# Altium footprint library PH2.0.PcbLib: 22 footprints (part 1 of 2)
Each footprint in its own frame and in the unit in brackets; x right, y up, seen from the top. Pads: shape width x height; smd on the part's side, far side on the other; paste and mask are expansions set on the pad; w line width, h text height; cw(c..) or ccw(c..) is an arc to the next point about the centre after c.
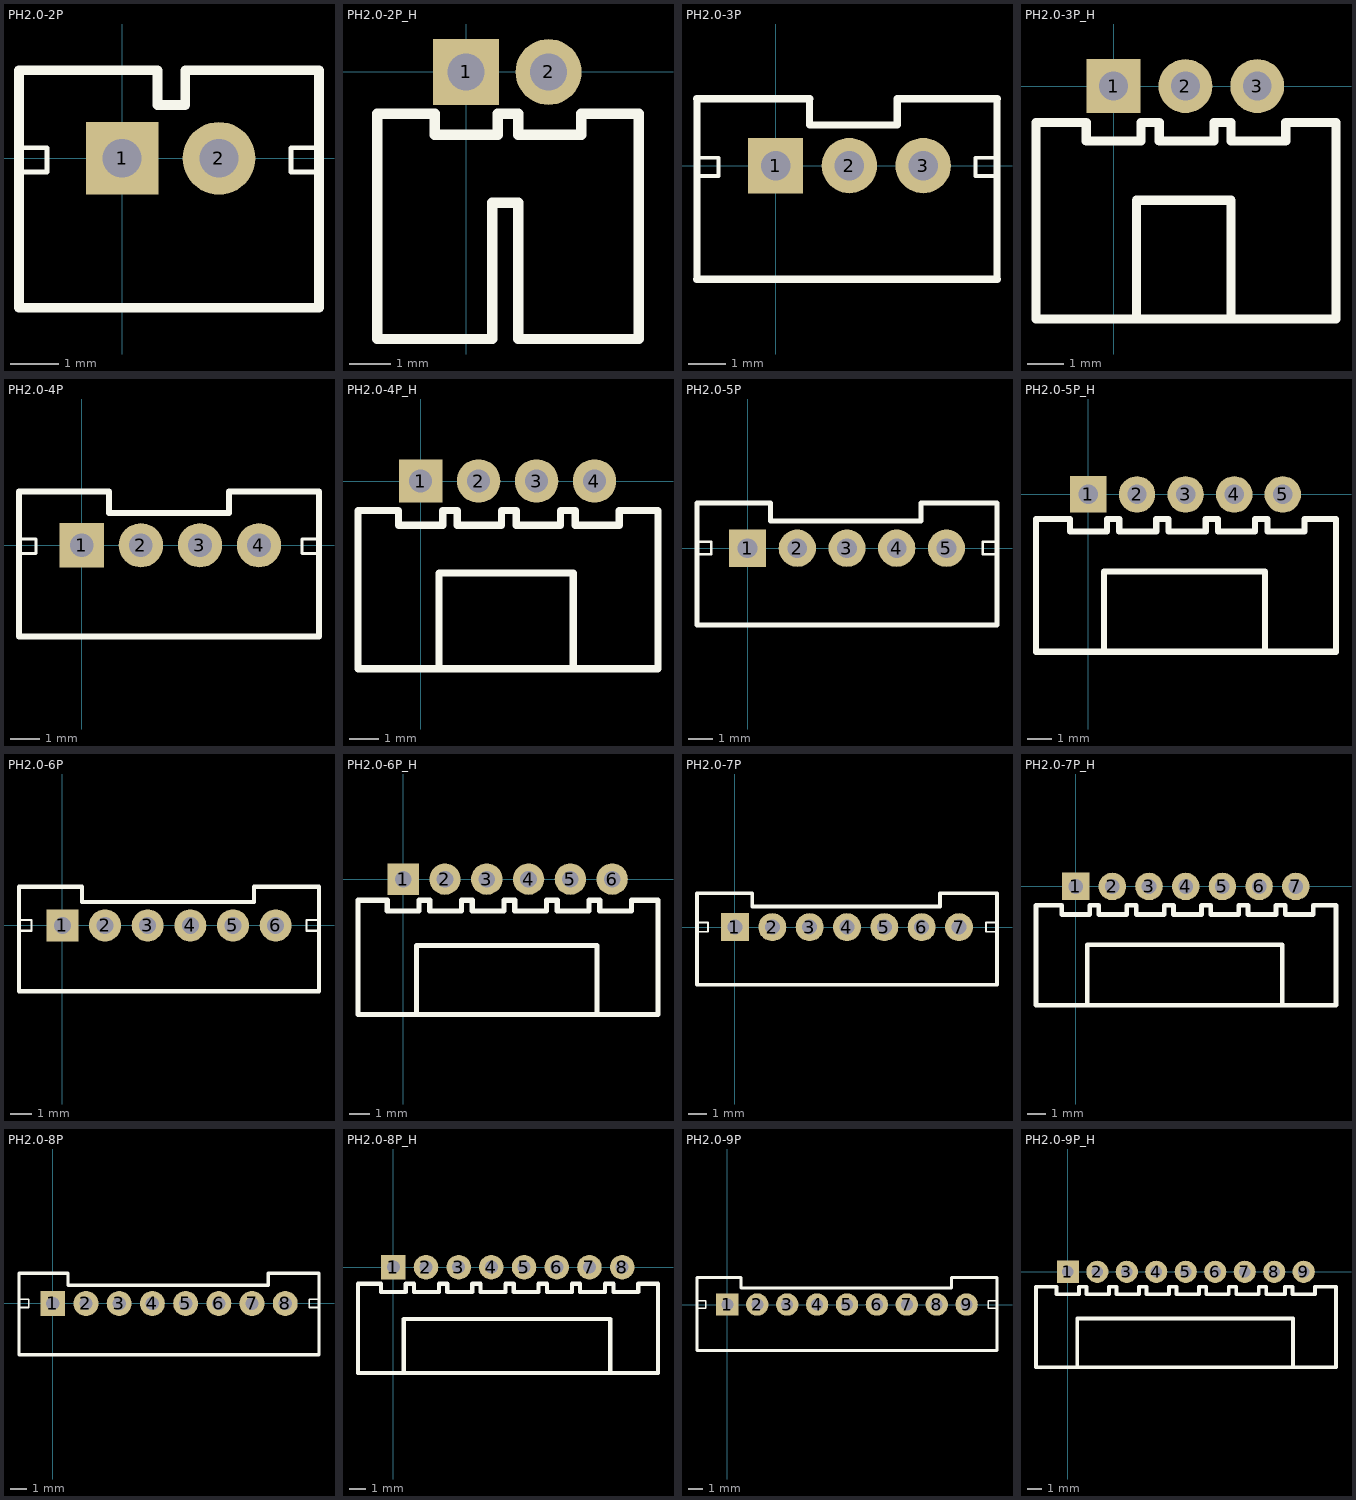
[diagram p0: the footprints below, top view; thin cyan lines are the x and y axes]

## PH2.0-2P [mm] "接插件/1A"
height 10
pads (2):
  rect 1.5x1.5 hole 0.8: 1(0,0)
  round 1.5 hole 0.8: 2(2,0)
Top Overlay:
  lines w0.1: -2.128,-0.284 -1.548,-0.284 -1.548,0.216 -2.128,0.216 ; 4.064,-0.284 3.484,-0.284 3.484,0.216 4.064,0.216
  lines w0.2: -2.128,-3.084 -2.128,1.816 ; 0.73,1.816 0.73,1.1 1.302,1.1 1.302,1.816 ; 4.064,-3.084 4.064,1.816
  lines w0.203: -2.128,-3.084 4,-3.084 ; -2.128,1.816 0.73,1.816 ; 1.302,1.816 4,1.816
3D body: height 6.02, standoff -2.98, extent -1.95,-3 3.95,1.7

## PH2.0-2P_H [mm] "接插件/1A"
height 10
pads (2):
  rect 1.6x1.6 hole 0.9: 1(0,0)
  round 1.6 hole 0.9: 2(2,0)
Top Overlay:
  lines w0.254: -2.159,-6.477 -2.159,-1.016 -0.762,-1.016 -0.762,-1.524 0.762,-1.524 0.762,-1.016 1.27,-1.016 1.27,-1.524 2.794,-1.524 2.794,-1.016 4.191,-1.016 4.191,-6.477 1.27,-6.477 1.27,-3.175 0.635,-3.175 0.635,-6.477 -2.159,-6.477
3D body: height 4.72, standoff -2.68, extent -1.95,-6.3 3.95,0.3

## PH2.0-3P [mm] "接插件/1A"
height 10
pads (3):
  rect 1.5x1.5 hole 0.8: 1(0,0)
  round 1.5 hole 0.8: 2(2,0) 3(4,0)
Top Overlay:
  lines w0.1: -2.128,-0.284 -1.548,-0.284 -1.548,0.216 -2.128,0.216 ; 6,-0.284 5.42,-0.284 5.42,0.216 6,0.216
  lines w0.2: -2.128,-3.084 -2.128,1.816 ; 0.92,1.816 0.92,1.1 3.302,1.1 3.302,1.816 ; 6,-3.084 6,1.816
  lines w0.203: -2.128,-3.084 6,-3.084 ; -2.128,1.816 0.92,1.816 ; 3.302,1.816 6,1.816
3D body: height 6.02, standoff -2.98, extent -1.95,-3 5.95,1.7

## PH2.0-3P_H [mm] "接插件/1A"
height 10
pads (3):
  rect 1.5x1.5 hole 0.8: 1(0,0)
  round 1.5 hole 0.8: 2(2,0) 3(4,0)
Top Overlay:
  lines w0.254: 0.635,-6.477 3.27,-6.477 ; 0.635,-6.477 -2.159,-6.477 -2.159,-1.016 -0.762,-1.016 -0.762,-1.524 0.762,-1.524 0.762,-1.016 1.27,-1.016 1.27,-1.524 2.794,-1.524 2.794,-1.016 3.27,-1.016 3.27,-1.524 4.794,-1.524 4.794,-1.016 6.191,-1.016 6.191,-6.477 3.27,-6.477 ; 0.635,-6.477 0.635,-3.175 3.27,-3.175 3.27,-6.477
3D body: height 4.72, standoff -2.68, extent -1.95,-6.3 5.95,0.3

## PH2.0-4P [mm] "接插件/1A"
height 10
pads (4):
  rect 1.5x1.5 hole 0.8: 1(0,0)
  round 1.5 hole 0.8: 2(2,0) 3(4,0) 4(6,0)
Top Overlay:
  lines w0.1: -2.128,-0.284 -1.548,-0.284 -1.548,0.216 -2.128,0.216 ; 8.032,-0.284 7.452,-0.284 7.452,0.216 8.032,0.216
  lines w0.2: -2.128,1.816 -2.128,-3.084 8.032,-3.084 8.032,1.816 ; 0.92,1.816 0.92,1.1 4.984,1.1 4.984,1.816
  lines w0.203: -2.128,1.816 0.92,1.816 ; 4.984,1.816 8.032,1.816
3D body: height 6.02, standoff -2.98, extent -1.95,-3 7.95,1.7

## PH2.0-4P_H [mm] "接插件/1A"
height 10
pads (4):
  rect 1.5x1.5 hole 0.8: 1(0,0)
  round 1.5 hole 0.8: 2(2,0) 3(4,0) 4(6,0)
Top Overlay:
  lines w0.254: 3.27,-6.477 8.191,-6.477 8.191,-1.016 6.858,-1.016 6.858,-1.524 6.604,-1.524 5.334,-1.524 5.334,-1.016 4.826,-1.016 4.826,-1.524 3.302,-1.524 3.302,-1.016 2.794,-1.016 2.794,-1.524 1.27,-1.524 1.27,-1.016 0.762,-1.016 0.762,-1.524 -0.762,-1.524 -0.762,-1.016 -2.159,-1.016 -2.159,-6.477 0.635,-6.477 ; 0.635,-6.477 5.27,-6.477 5.27,-3.175 0.635,-3.175 0.635,-6.477
3D body: height 4.72, standoff -2.68, extent -1.95,-6.3 7.95,0.3

## PH2.0-5P [mm] "接插件/1A"
height 10
pads (5):
  rect 1.5x1.5 hole 0.8: 1(0,0)
  round 1.5 hole 0.8: 2(2,0) 3(4,0) 4(6,0) 5(8,0)
Top Overlay:
  lines w0.1: -2.032,-0.246 -1.452,-0.246 -1.452,0.254 -2.032,0.254 ; 10.032,-0.246 9.452,-0.246 9.452,0.254 10.032,0.254
  lines w0.2: -2.032,1.816 -2.032,-3.084 10.032,-3.084 10.032,1.816 ; 0.92,1.816 0.92,1.1 6.984,1.1 6.984,1.816
  lines w0.203: -2.032,1.816 0.92,1.816 ; 6.984,1.816 10.032,1.816
3D body: height 6.02, standoff -2.98, extent -1.95,-3 9.95,1.7

## PH2.0-5P_H [mm] "接插件/1A"
height 10
pads (5):
  rect 1.5x1.5 hole 0.8: 1(0,0)
  round 1.5 hole 0.8: 2(2,0) 3(4,0) 4(6,0) 5(8,0)
Top Overlay:
  lines w0.254: 3.27,-6.477 10.191,-6.477 10.191,-1.016 8.89,-1.016 8.89,-1.524 8.636,-1.524 7.366,-1.524 7.366,-1.016 6.858,-1.016 6.858,-1.524 5.334,-1.524 5.334,-1.016 4.826,-1.016 4.826,-1.524 3.302,-1.524 3.302,-1.016 2.794,-1.016 2.794,-1.524 1.27,-1.524 1.27,-1.016 0.762,-1.016 0.762,-1.524 -0.762,-1.524 -0.762,-1.016 -2.159,-1.016 -2.159,-6.477 0.635,-6.477 ; 0.635,-6.477 0.635,-3.175 7.27,-3.175 7.27,-6.477 0.635,-6.477
3D body: height 4.72, standoff -2.68, extent -1.95,-6.3 9.95,0.3

## PH2.0-6P [mm] "接插件/1A"
height 10
pads (6):
  rect 1.5x1.5 hole 0.8: 1(0,0)
  round 1.5 hole 0.8: 2(2,0) 3(4,0) 4(6,0) 5(8,0) 6(10,0)
Top Overlay:
  lines w0.1: -2.032,-0.246 -1.452,-0.246 -1.452,0.254 -2.032,0.254 ; 12.032,-0.246 11.452,-0.246 11.452,0.254 12.032,0.254
  lines w0.2: -2.032,1.816 -2.032,-3.084 12.032,-3.084 12.032,1.816 ; 0.92,1.816 0.92,1.1 8.984,1.1 8.984,1.816
  lines w0.203: -2.032,1.816 0.92,1.816 ; 8.984,1.816 12.032,1.816
3D body: height 6.02, standoff -2.98, extent -1.95,-3 11.95,1.7

## PH2.0-6P_H [mm] "接插件/1A"
height 10
pads (6):
  rect 1.5x1.5 hole 0.8: 1(0,0)
  round 1.5 hole 0.8: 2(2,0) 3(4,0) 4(6,0) 5(8,0) 6(10,0)
Top Overlay:
  lines w0.254: 3.27,-6.477 12.191,-6.477 12.191,-1.016 10.922,-1.016 10.922,-1.524 9.398,-1.524 9.398,-1.016 8.89,-1.016 8.89,-1.524 7.366,-1.524 7.366,-1.016 6.858,-1.016 6.858,-1.524 5.334,-1.524 5.334,-1.016 4.826,-1.016 4.826,-1.524 3.302,-1.524 3.302,-1.016 2.794,-1.016 2.794,-1.524 1.27,-1.524 1.27,-1.016 0.762,-1.016 0.762,-1.524 -0.762,-1.524 -0.762,-1.016 -2.159,-1.016 -2.159,-6.477 0.635,-6.477 ; 0.635,-6.477 9.27,-6.477 9.27,-3.175 0.635,-3.175 0.635,-6.477
3D body: height 4.72, standoff -2.68, extent -1.95,-6.3 11.95,0.3

## PH2.0-7P [mm] "接插件/1A"
height 10
pads (7):
  rect 1.5x1.5 hole 0.8: 1(0,0)
  round 1.5 hole 0.8: 2(2,0) 3(4,0) 4(6,0) 5(8,0) 6(10,0) 7(12,0)
Top Overlay:
  lines w0.1: -2.032,-0.246 -1.452,-0.246 -1.452,0.254 -2.032,0.254 ; 14.032,-0.246 13.452,-0.246 13.452,0.254 14.032,0.254
  lines w0.2: -2.032,1.816 -2.032,-3.084 14.032,-3.084 14.032,1.816 ; 0.92,1.816 0.92,1.1 10.984,1.1 10.984,1.816
  lines w0.203: -2.032,1.816 0.92,1.816 ; 10.984,1.816 14.032,1.816
3D body: height 6.02, standoff -2.98, extent -1.95,-3 13.95,1.7

## PH2.0-7P_H [mm] "接插件/1A"
height 10
pads (7):
  rect 1.5x1.5 hole 0.8: 1(0,0)
  round 1.5 hole 0.8: 2(2,0) 3(4,0) 4(6,0) 5(8,0) 6(10,0) 7(12,0)
Top Overlay:
  lines w0.254: 3.27,-6.477 14.191,-6.477 14.191,-1.016 12.954,-1.016 12.954,-1.524 11.43,-1.524 11.43,-1.016 10.922,-1.016 10.922,-1.524 9.398,-1.524 9.398,-1.016 8.89,-1.016 8.89,-1.524 7.366,-1.524 7.366,-1.016 6.858,-1.016 6.858,-1.524 6.604,-1.524 5.334,-1.524 5.334,-1.016 4.826,-1.016 4.826,-1.524 3.302,-1.524 3.302,-1.016 2.794,-1.016 2.794,-1.524 1.27,-1.524 1.27,-1.016 0.762,-1.016 0.762,-1.524 -0.762,-1.524 -0.762,-1.016 -2.159,-1.016 -2.159,-6.477 0.635,-6.477 ; 0.635,-6.477 0.635,-3.175 11.27,-3.175 11.27,-6.477 0.635,-6.477
3D body: height 4.72, standoff -2.68, extent -1.95,-6.3 13.95,0.3

## PH2.0-8P [mm] "接插件/1A"
height 10
pads (8):
  rect 1.5x1.5 hole 0.8: 1(0,0)
  round 1.5 hole 0.8: 2(2,0) 3(4,0) 4(6,0) 5(8,0) 6(10,0) 7(12,0) 8(14,0)
Top Overlay:
  lines w0.1: -2.032,-0.246 -1.452,-0.246 -1.452,0.254 -2.032,0.254 ; 16.032,-0.246 15.452,-0.246 15.452,0.254 16.032,0.254
  lines w0.2: -2.032,1.816 -2.032,-3.084 16.032,-3.084 16.032,1.816 ; 0.92,1.816 0.92,1.1 12.984,1.1 12.984,1.816
  lines w0.203: -2.032,1.816 0.92,1.816 ; 12.984,1.816 16.032,1.816
3D body: height 6.02, standoff -2.98, extent -1.95,-3 15.95,1.7

## PH2.0-8P_H [mm] "接插件/1A"
height 10
pads (8):
  rect 1.5x1.5 hole 0.8: 1(0,0)
  round 1.5 hole 0.8: 2(2,0) 3(4,0) 4(6,0) 5(8,0) 6(10,0) 7(12,0) 8(14,0)
Top Overlay:
  lines w0.254: 3.27,-6.477 16.191,-6.477 16.191,-1.016 14.986,-1.016 14.986,-1.524 13.462,-1.524 13.462,-1.016 12.954,-1.016 12.954,-1.524 11.43,-1.524 11.43,-1.016 10.922,-1.016 10.922,-1.524 9.398,-1.524 9.398,-1.016 8.89,-1.016 8.89,-1.524 7.366,-1.524 7.366,-1.016 6.858,-1.016 6.858,-1.524 5.334,-1.524 5.334,-1.016 4.826,-1.016 4.826,-1.524 3.302,-1.524 3.302,-1.016 2.794,-1.016 2.794,-1.524 1.27,-1.524 1.27,-1.016 0.762,-1.016 0.762,-1.524 -0.762,-1.524 -0.762,-1.016 -2.159,-1.016 -2.159,-6.477 0.635,-6.477 ; 11.27,-6.477 0.635,-6.477 ; 13.27,-6.477 13.27,-3.175 0.635,-3.175 0.635,-6.477
3D body: height 4.72, standoff -2.68, extent -1.95,-6.3 15.95,0.3

## PH2.0-9P [mm] "接插件/1A"
height 10
pads (9):
  rect 1.5x1.5 hole 0.8: 1(0,0)
  round 1.5 hole 0.8: 2(2,0) 3(4,0) 4(6,0) 5(8,0) 6(10,0) 7(12,0) 8(14,0) 9(16,0)
Top Overlay:
  lines w0.1: -2.032,-0.246 -1.452,-0.246 -1.452,0.254 -2.032,0.254 ; 18.032,-0.246 17.452,-0.246 17.452,0.254 18.032,0.254
  lines w0.2: -2.032,1.816 -2.032,-3.084 18.032,-3.084 18.032,1.816 ; 0.92,1.816 0.92,1.1 14.984,1.1 14.984,1.816
  lines w0.203: -2.032,1.816 0.92,1.816 ; 14.984,1.816 18.032,1.816
3D body: height 6.02, standoff -2.98, extent -1.95,-3 17.95,1.7

## PH2.0-9P_H [mm] "接插件/1A"
height 10
pads (9):
  rect 1.5x1.5 hole 0.8: 1(0,0)
  round 1.5 hole 0.8: 2(2,0) 3(4,0) 4(6,0) 5(8,0) 6(10,0) 7(12,0) 8(14,0) 9(16,0)
Top Overlay:
  lines w0.254: 3.27,-6.477 18.191,-6.477 18.191,-1.016 16.764,-1.016 16.764,-1.524 15.24,-1.524 15.24,-1.016 14.732,-1.016 14.732,-1.524 13.462,-1.524 13.462,-1.016 12.954,-1.016 12.954,-1.524 12.7,-1.524 11.43,-1.524 11.43,-1.016 10.922,-1.016 10.922,-1.524 9.398,-1.524 9.398,-1.016 8.89,-1.016 8.89,-1.524 7.366,-1.524 7.366,-1.016 6.858,-1.016 6.858,-1.524 5.334,-1.524 5.334,-1.016 4.826,-1.016 4.826,-1.524 3.302,-1.524 3.302,-1.016 2.794,-1.016 2.794,-1.524 1.27,-1.524 1.27,-1.016 0.762,-1.016 0.762,-1.524 -0.762,-1.524 -0.762,-1.016 -2.159,-1.016 -2.159,-6.477 0.635,-6.477 ; 11.27,-6.477 0.635,-6.477 ; 15.27,-6.477 15.27,-3.175 0.635,-3.175 0.635,-6.477
3D body: height 4.72, standoff -2.68, extent -1.95,-6.3 17.95,0.3